# Altium footprint library ERF8-020-XX.X-X-DV.PcbLib: 1 footprints
Each footprint in its own frame and in the unit in brackets; x right, y up, seen from the top. Pads: shape width x height; smd on the part's side, far side on the other; paste and mask are expansions set on the pad; w line width, h text height; cw(c..) or ccw(c..) is an arc to the next point about the centre after c.
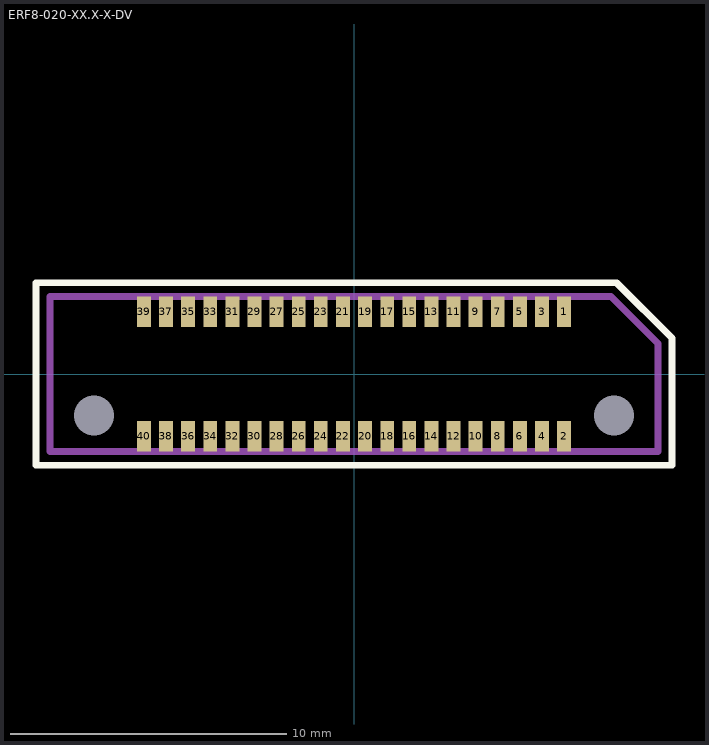
[diagram p0: the footprint, top view; thin cyan lines are the x and y axes]

## ERF8-020-XX.X-X-DV [mm]
pads (42):
  rect 0.5x1.1 smd mask+0.05: 1(7.6,2.25) 2(7.6,-2.25) 3(6.8,2.25) 4(6.8,-2.25) 5(6,2.25) 6(6,-2.25) 7(5.2,2.25) 8(5.2,-2.25) 9(4.4,2.25) 10(4.4,-2.25) 11(3.6,2.25) 12(3.6,-2.25) 13(2.8,2.25) 14(2.8,-2.25) 15(2,2.25) 16(2,-2.25) 17(1.2,2.25) 18(1.2,-2.25) 19(0.4,2.25) 20(0.4,-2.25) 21(-0.4,2.25) 22(-0.4,-2.25) 23(-1.2,2.25) 24(-1.2,-2.25) 25(-2,2.25) 26(-2,-2.25) 27(-2.8,2.25) 28(-2.8,-2.25) 29(-3.6,2.25) 30(-3.6,-2.25) 31(-4.4,2.25) 32(-4.4,-2.25) 33(-5.2,2.25) 34(-5.2,-2.25) 35(-6,2.25) 36(-6,-2.25) 37(-6.8,2.25) 38(-6.8,-2.25) 39(-7.6,2.25) 40(-7.6,-2.25)
  round 0 hole 1.45 unplated: MH1(9.4,-1.5) MH2(-9.4,-1.5)
Top Overlay:
  lines w0.25: -11.508,-3.3 11.508,-3.3 11.508,1.3 9.5,3.3 -11.508,3.3 -11.508,-3.3
Mechanical 1:
  lines w0.25: -11,-2.8 11,-2.8 11,1.1 9.3,2.8 -11,2.8 -11,-2.8
  text "J1" at -0.491,-0.502 h0.75